# Altium footprint library KN_ECART.PcbLib: 34 footprints (part 2 of 3)
Each footprint in its own frame and in the unit in brackets; x right, y up, seen from the top. Pads: shape width x height; smd on the part's side, far side on the other; paste and mask are expansions set on the pad; w line width, h text height; cw(c..) or ccw(c..) is an arc to the next point about the centre after c.
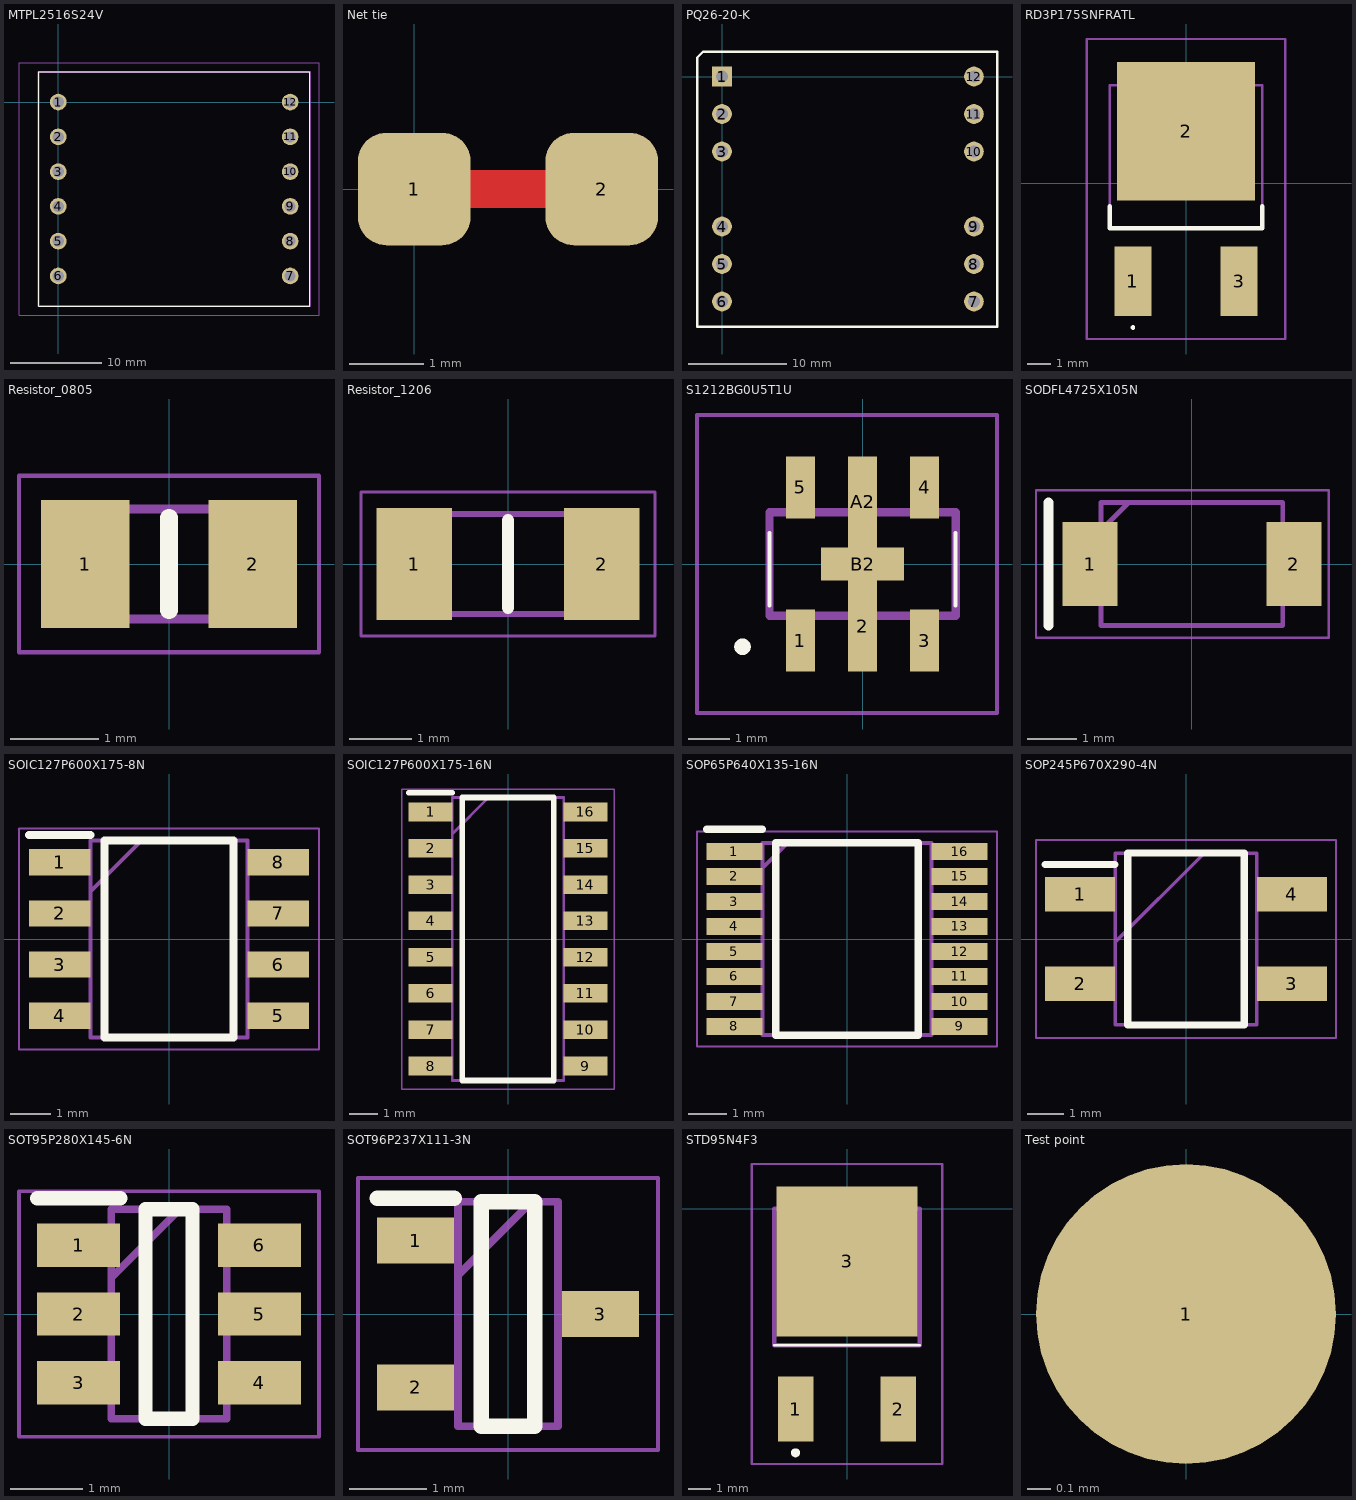
[diagram p1: the footprints below, top view; thin cyan lines are the x and y axes]

## MTPL2516S24V [mm]
pads (12):
  round 1.824 hole 1.216: 1(0,0) 2(0,-3.81) 3(0,-7.62) 4(0,-11.43) 5(0,-15.24) 6(0,-19.05) 7(25.4,-19.05) 8(25.4,-15.24) 9(25.4,-11.43) 10(25.4,-7.62) 11(25.4,-3.81) 12(25.4,0)
Top Overlay:
  lines w0.1: -2.159,-22.352 -2.159,3.302 27.559,3.302 27.559,-22.352 -2.159,-22.352
Mechanical 13:
  lines w0.2: -2.159,-22.352 -2.159,3.302 27.559,3.302 27.559,-22.352 -2.159,-22.352
Mechanical 15:
  lines w0.1: -4.3,-23.352 -4.3,4.302 28.559,4.302 28.559,-23.352 -4.3,-23.352
3D body "MTPL-2516-S24V.stp": height 16.61, standoff -5, extent -2.159,-22.352 27.559,3.302

## Net tie [mil] "Net tie - SMD short"
pads (2):
  rrect50% 60x60 smd: 1(0,0) 2(100,0)
Top Layer:
  region: 20,10 80,10 80,-10 20,-10

## PQ26-20-K [mm] "Transformer"
pads (12):
  rect 2x2 hole 1.2: 1(0,0)
  round 2 hole 1.2: 2(0,-3.81) 3(0,-7.62) 4(0,-15.24) 5(0,-19.05) 6(0,-22.86) 7(25.6,-22.86) 8(25.6,-19.05) 9(25.6,-15.24) 10(25.6,-7.62) 11(25.6,-3.81) 12(25.6,0)
Top Overlay:
  lines w0.254: -2.54,-25.4 -2.54,0 -2.54,1.27 -2.54,1.905 -1.905,2.54 0,2.54 27.94,2.54 27.94,-25.4 -2.54,-25.4
3D body "PQ26-20-K-12P-P-2602_z³o¿enie.STEP": height 25.1, standoff -3.6, extent -1.95,-25.08 27.35,2.22

## RD3P175SNFRATL [mm]
pads (3):
  rect 1.6x3 smd: 1(-2.3,-4.25) 3(2.3,-4.25)
  rect 6x6 smd: 2(0,2.25)
Top Overlay:
  lines w0.1: -2.3,-6.3 ccw(c-2.3,-6.25) -2.3,-6.2 ccw(c-2.3,-6.25) -2.3,-6.3
  lines w0.2: -3.3,-1 -3.3,-1.95 3.3,-1.95 3.3,-1
Mechanical 13:
  lines w0.1: -3.3,-1.95 -3.3,4.25 3.3,4.25 3.3,-1.95 -3.3,-1.95
Mechanical 15:
  lines w0.1: -4.3,-6.75 -4.3,6.25 4.3,6.25 4.3,-6.75 -4.3,-6.75
3D body "RB095BGE-30TL.stp": height 2.5, standoff 0, extent -3.296,-5.201 3.304,4.699

## Resistor_0805 [mm] "Resistor - Standard SMD"
pads (2):
  rect 1x1.45 smd: 1(-0.95,0) 2(0.95,0)
Top Overlay:
  lines w0.2: 0,-0.525 0,0.525
Mechanical 13:
  lines w0.1: -1,-0.625 1,-0.625 1,0.625 -1,0.625 -1,-0.625
Mechanical 15:
  lines w0.05: -1.7,-1 1.7,-1 1.7,1 -1.7,1 -1.7,-1
3D body "CPF0805B102KE1.stp": height 0.65, standoff 0, extent -1,-0.625 1,0.625

## Resistor_1206 [mm] "Resistor - Stnadard SMD"
pads (2):
  rect 1.2x1.8 smd: 1(-1.5,0) 2(1.5,0)
Top Overlay:
  lines w0.2: 0,-0.7 0,0.7
Mechanical 13:
  lines w0.1: -1.6,-0.8 1.6,-0.8 1.6,0.8 -1.6,0.8 -1.6,-0.8
Mechanical 15:
  lines w0.05: -2.35,-1.15 2.35,-1.15 2.35,1.15 -2.35,1.15 -2.35,-1.15
3D body "CR1206-F_-2R00ELF.stp": height 0.75, standoff 0, extent -1.6,-0.8 1.6,0.8

## S1212BG0U5T1U [mm]
pads (7):
  rect 0.7x1.5 smd: 1(-1.5,-1.85) 3(1.5,-1.85) 4(1.5,1.85) 5(-1.5,1.85)
  rect 0.7x2.2 smd: 2(0,-1.5) A2(0,1.5)
  rect 2x0.8 smd: B2(0,0)
Top Overlay:
  lines w0.1: -2.25,-1 -2.25,0.75 -2.25,-1 ; 2.25,-1 2.25,0.75 2.25,-1
  lines w0.2: -3,-2 ccw(c-2.9,-2) -2.8,-2 ; -3,-2 cw(c-2.9,-2) -2.8,-2 ; -3,-2 ccw(c-2.9,-2) -2.8,-2
Mechanical 13:
  lines w0.2: -2.25,-1.25 -2.25,1.25 2.25,1.25 2.25,-1.25 -2.25,-1.25
Mechanical 15:
  lines w0.1: -4,-3.6 -4,3.6 3.25,3.6 3.25,-3.6 -4,-3.6
3D body "S-1212BG0-U5T1U.stp": height 1.7, standoff 0, extent -2.25,-1.25 2.25,1.25

## SODFL4725X105N [mm]
pads (2):
  rect 1.12x1.72 smd: 1(-2.075,0) 2(2.075,0)
Top Overlay:
  lines w0.2: -2.921,-1.25 -2.921,1.25
Mechanical 13:
  lines w0.1: -1.85,0.69 -1.29,1.25 ; -1.85,-1.25 1.85,-1.25 1.85,1.25 -1.85,1.25 -1.85,-1.25
Mechanical 15:
  lines w0.05: -3.175,-1.5 -3.175,1.5 2.785,1.5 2.785,-1.5 -3.175,-1.5
3D body "RB058LAM100TR.stp": height 1.05, standoff 0, extent -2.35,-1.25 2.35,1.25

## SOIC127P600X175-8N [mm]
pads (8):
  rect 1.525x0.65 smd: 1(-2.712,1.905) 2(-2.712,0.635) 3(-2.712,-0.635) 4(-2.712,-1.905) 5(2.712,-1.905) 6(2.712,-0.635) 7(2.712,0.635) 8(2.712,1.905)
Top Overlay:
  lines w0.2: -3.475,2.58 -1.95,2.58 ; -1.6,-2.45 1.6,-2.45 1.6,2.45 -1.6,2.45 -1.6,-2.45
Mechanical 13:
  lines w0.1: -1.95,1.18 -0.68,2.45 ; -1.95,-2.45 1.95,-2.45 1.95,2.45 -1.95,2.45 -1.95,-2.45
Mechanical 15:
  lines w0.05: -3.725,-2.75 3.725,-2.75 3.725,2.75 -3.725,2.75 -3.725,-2.75
3D body "NE555DR.stp": height 1.75, standoff 0, extent -3,-2.45 3,2.45

## SOIC127P600X175-16N [mm]
pads (16):
  rect 1.525x0.65 smd: 1(-2.712,4.445) 2(-2.712,3.175) 3(-2.712,1.905) 4(-2.712,0.635) 5(-2.712,-0.635) 6(-2.712,-1.905) 7(-2.712,-3.175) 8(-2.712,-4.445) 9(2.712,-4.445) 10(2.712,-3.175) 11(2.712,-1.905) 12(2.712,-0.635) 13(2.712,0.635) 14(2.712,1.905) 15(2.712,3.175) 16(2.712,4.445)
Top Overlay:
  lines w0.2: -3.475,5.12 -1.95,5.12 ; -1.6,-4.95 1.6,-4.95 1.6,4.95 -1.6,4.95 -1.6,-4.95
Mechanical 13:
  lines w0.1: -1.95,3.68 -0.68,4.95 ; -1.95,-4.95 1.95,-4.95 1.95,4.95 -1.95,4.95 -1.95,-4.95
Mechanical 15:
  lines w0.05: -3.725,-5.25 3.725,-5.25 3.725,5.25 -3.725,5.25 -3.725,-5.25
3D body "L6599AD.stp": height 1.75, standoff 0, extent -3,-4.95 3,4.95

## SOP65P640X135-16N [mm]
pads (16):
  rect 1.45x0.45 smd: 1(-2.925,2.275) 2(-2.925,1.625) 3(-2.925,0.975) 4(-2.925,0.325) 5(-2.925,-0.325) 6(-2.925,-0.975) 7(-2.925,-1.625) 8(-2.925,-2.275) 9(2.925,-2.275) 10(2.925,-1.625) 11(2.925,-0.975) 12(2.925,-0.325) 13(2.925,0.325) 14(2.925,0.975) 15(2.925,1.625) 16(2.925,2.275)
Top Overlay:
  lines w0.2: -3.65,2.85 -2.2,2.85 ; -1.85,-2.5 -1.85,2.5 1.85,2.5 1.85,-2.5 -1.85,-2.5
Mechanical 13:
  lines w0.1: -2.2,1.85 -1.55,2.5 ; -2.2,-2.5 -2.2,2.5 2.2,2.5 2.2,-2.5 -2.2,-2.5
Mechanical 15:
  lines w0.05: -3.9,-2.8 -3.9,2.8 3.9,2.8 3.9,-2.8 -3.9,-2.8
3D body "NCP1568S02DBR2G.stp": height 1.35, standoff 0, extent -3.2,-2.5 3.2,2.5

## SOP245P670X290-4N [mm]
pads (4):
  rect 1.925x0.95 smd: 1(-2.912,1.225) 2(-2.912,-1.225) 3(2.912,-1.225) 4(2.912,1.225)
Top Overlay:
  lines w0.2: -3.875,2.05 -1.95,2.05 ; -1.6,-2.362 -1.6,2.362 1.6,2.362 1.6,-2.362 -1.6,-2.362
Mechanical 13:
  lines w0.1: -1.95,-0.088 0.5,2.362 ; -1.95,-2.362 -1.95,2.362 1.95,2.362 1.95,-2.362 -1.95,-2.362
Mechanical 15:
  lines w0.05: -4.125,-2.725 -4.125,2.725 4.125,2.725 4.125,-2.725 -4.125,-2.725
3D body "MB4S.stp": height 2.9, standoff 0, extent -3.35,-2.362 3.35,2.362

## SOT95P280X145-6N [mm]
pads (6):
  rect 1.15x0.6 smd: 1(-1.25,0.95) 2(-1.25,0) 3(-1.25,-0.95) 4(1.25,-0.95) 5(1.25,0) 6(1.25,0.95)
Top Overlay:
  lines w0.2: -1.825,1.6 -0.675,1.6 ; -0.325,-1.45 0.325,-1.45 0.325,1.45 -0.325,1.45 -0.325,-1.45
Mechanical 13:
  lines w0.1: -0.8,0.5 0.15,1.45 ; -0.8,-1.45 0.8,-1.45 0.8,1.45 -0.8,1.45 -0.8,-1.45
Mechanical 15:
  lines w0.05: -2.075,-1.7 2.075,-1.7 2.075,1.7 -2.075,1.7 -2.075,-1.7
3D body "SRK1000.stp": height 1.45, standoff 0, extent -1.4,-1.45 1.4,1.45

## SOT96P237X111-3N [mm]
pads (3):
  rect 1x0.6 smd: 1(-1.2,0.955) 2(-1.2,-0.955) 3(1.2,0)
Top Overlay:
  lines w0.2: -1.7,1.505 -0.7,1.505 ; -0.35,-1.46 -0.35,1.46 0.35,1.46 0.35,-1.46 -0.35,-1.46
Mechanical 13:
  lines w0.1: -0.65,0.505 0.305,1.46 ; -0.65,-1.46 -0.65,1.46 0.65,1.46 0.65,-1.46 -0.65,-1.46
Mechanical 15:
  lines w0.05: -1.95,-1.77 -1.95,1.77 1.95,1.77 1.95,-1.77 -1.95,-1.77
3D body "NCP431AVSNT1G.stp": height 1.11, standoff 0, extent -1.185,-1.46 1.185,1.46

## STD95N4F3 [mm]
pads (3):
  rect 1.6x2.9 smd: 1(-2.286,-8.95) 2(2.286,-8.95)
  rect 6.3x6.7 smd: 3(0,-2.35)
Top Overlay:
  lines w0.1: -3.25,-6.1 3.25,-6.1
  lines w0.2: -2.3,-11 cw(c-2.3,-10.9) -2.3,-10.8 cw(c-2.3,-10.9) -2.3,-11
Mechanical 13:
  lines w0.2: -3.25,-6.1 3.25,-6.1 3.25,0 -3.25,0 -3.25,-6.1
Mechanical 15:
  lines w0.1: -4.25,-11.4 4.25,-11.4 4.25,2 -4.25,2 -4.25,-11.4
3D body: height 4.5, standoff 0, extent -3.25,-6.1 3.25,0

## Test point [mm] "Test point SMD, 50 mil"
pads (1):
  round 1.27 smd: 1(0,0)